# Altium schematic symbol library CN HDR 24POS 2x12.Schlib: 1 symbol
Pins are listed as number, name and electrical type; pins without a type are passive.

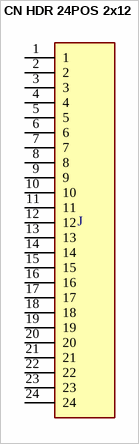
[diagram p0: symbol CN HDR 24POS 2x12]

## CN HDR 24POS 2x12
designator J  (value not drawn)
Pin Connector 2X12P MOD2 STIFTLEI 24 POS 0.1" 2.54mm
footprint CN Header 24 POS (12x2) (24 position, dual row, standard 0.1" (2.54mm) spacing.)
pins: 1, 2, 3, 4, 5, 6, 7, 8, 9, 10, 11, 12, 13, 14, 15, 16, 17, 18, 19, 20, 21, 22, 23, 24